# Altium schematic symbol library POWER_PADS.Schlib: 1 symbol
Pins are listed as number, name and electrical type; pins without a type are passive.

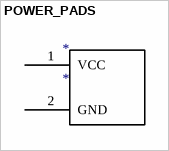
[diagram p0: symbol POWER_PADS]

## POWER_PADS
designator *
footprint POWER_PADS
pins: 1 VCC, 2 GND